# Altium footprint library ATK-SIM800C.PcbLib: 25 footprints (part 1 of 2)
Each footprint in its own frame and in the unit in brackets; x right, y up, seen from the top. Pads: shape width x height; smd on the part's side, far side on the other; paste and mask are expansions set on the pad; w line width, h text height; cw(c..) or ccw(c..) is an arc to the next point about the centre after c.
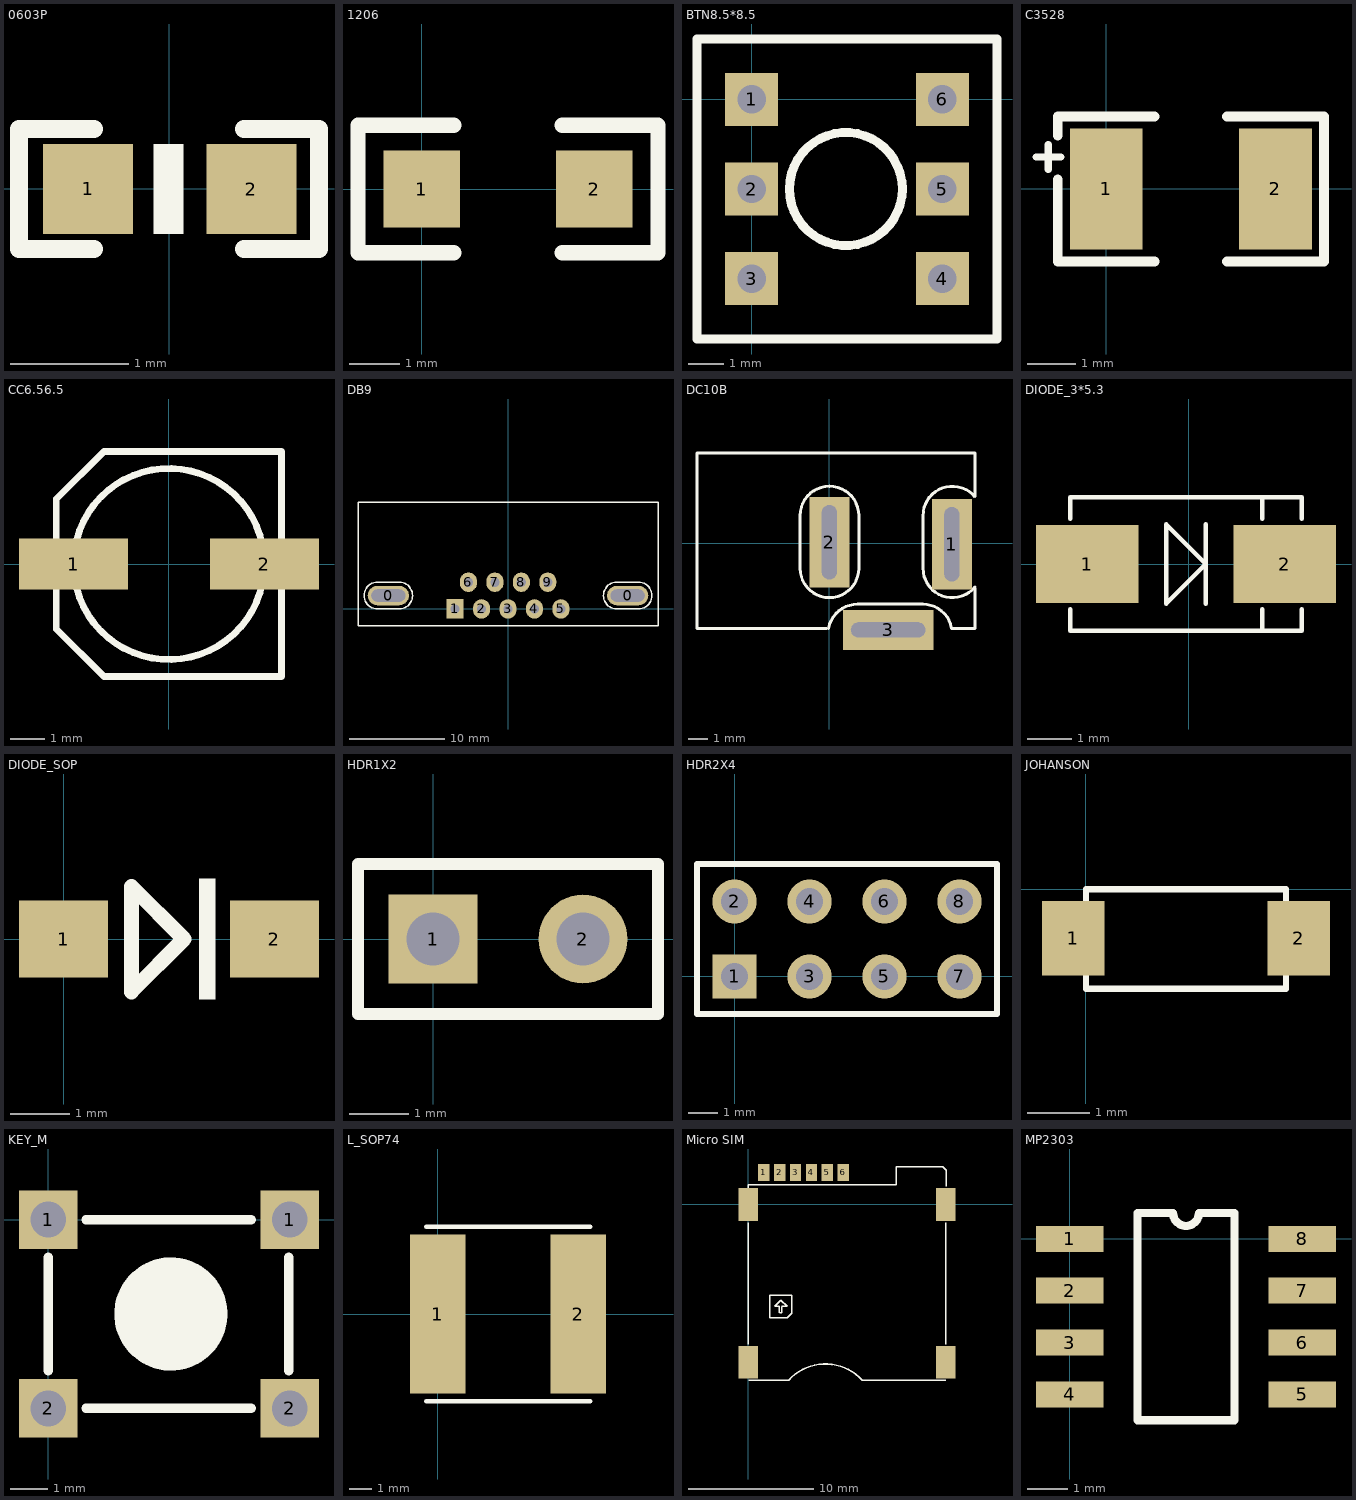
[diagram p0: the footprints below, top view; thin cyan lines are the x and y axes]

## 0603P [mil]
pads (2):
  rect 30x30 smd: 1(-27,0) 2(27.5,-0.06)
Top Overlay:
  region: 4.9,-15.03 4.9,14.97 -5.1,14.97 -5.1,-15.03
  lines w6: -25,-20.06 -50,-20.06 -50,19.94 -25,19.94 ; 25,-20.06 50,-20.06 50,19.94 25,19.94

## 1206 [mil]
pads (2):
  rect 60x60 smd: 1(0,0) 2(135,0)
Top Overlay:
  lines w12: 25,-50 -50,-50 -50,50 25,50 ; 110,-50 185,-50 185,50 110,50

## BTN8.5*8.5 [mm] "8.5MM*8.5MM"
height 20
pads (6):
  rect 1.5x1.5 hole 0.8: 1(0,0) 2(0,-2.54) 3(0,-5.08) 4(5.4,-5.08) 5(5.4,-2.54) 6(5.4,0)
Top Overlay:
  circle w0.254: c2.667,-2.54 r1.6
  lines w0.254: -1.55,-6.79 6.95,-6.79 6.95,1.71 -1.55,1.71 -1.55,-6.79

## C3528 [mm] "1210 3.5MM*2.8MM"
height 2
pads (2):
  rect 1.5x2.5 smd: 1(0,0) 2(3.5,0)
Top Overlay:
  lines w0.152: -1.448,0.662 -0.94,0.662 ; -1.194,0.408 -1.194,0.916
  lines w0.203: -1,0.2 -1,-1.5 1.005,-1.5 ; -1,1.1 -1,1.5 1,1.5 ; 2.5,-1.5 4.5,-1.5 4.5,1.5 2.5,1.5

## CC6.56.5 [mm] "SMD;W:6.5mm;L:6.5mm;"
height 5.5
pads (2):
  rect 3.2x1.5 smd: 1(-2.794,0) 2(2.8,0)
Top Overlay:
  circle w0.2: c0,0 r2.8
  lines w0.2: -3.302,-1.905 -3.302,1.905 -1.905,3.302 3.302,3.302 3.302,-3.302 -1.905,-3.302 -3.302,-1.905

## DB9 [mil]
pads (11):
  oval 170x80 hole 50 slot 140 at 0 deg: 0(-493,55) 0(493,55)
  rect 70x80 hole 38: 1(-218,0)
  oval 70x80 hole 38: 2(-109,0) 3(0,0) 4(109,0) 5(218,0) 6(-163,110) 7(-54,110) 8(55,110) 9(164,110)
Top Overlay:
  lines w6: -618,-70 618,-70 618,440 -618,440 -618,-70 ; -538,0 cw(c-538,55) -538,110 -448,110 cw(c-448,55) -448,0 -538,0 ; 448,0 cw(c448,55) 448,110 538,110 cw(c538,55) 538,0 448,0

## DC10B [mil]
pads (3):
  rect 80x180 hole 30 slot 148.11 at 90 deg: 1(244,-2) 2(0,2)
  rect 180x80 hole 30 slot 148.11 at 0 deg: 3(117,-173)
Top Overlay:
  lines w6: -6,-170.06 -264,-170.06 -264,179.94 290,179.94 289.83,92.55 ccw(c245,54.94) 186.48,54.94 186.48,-50.06 ccw(c245,-50.06) 289.83,-87.68 ; -1.63,-169.9 cw(c56,-180.06) 56,-121.54 186,-121.54 cw(c186,-180.06) 243.63,-169.9 ; 245,-170.06 290,-170.06 290,-90.06 ; 58.52,54.94 ccw(c0,54.94) -58.52,54.94 -58.52,-50.06 ccw(c0,-50.06) 58.52,-50.06 58.52,54.94 ; 58.52,54.94 58.52,54.94

## DIODE_3*5.3 [mm] "ME:SS14/SS24;L:5.3mm;W:3mm;"
height 2.5
pads (2):
  rect 2.3x1.75 smd: 1(-2.286,0) 2(2.159,0)
Top Overlay:
  lines w0.1: -2.667,-1.016 -2.667,-1.5 2.54,-1.5 2.54,-1.016 ; -2.667,1.016 -2.667,1.5 2.54,1.5 2.54,1.016 ; 0.381,-0.889 0.381,0.889 ; 1.651,-1.5 1.651,-1.016 ; 1.651,1.016 1.651,1.5 ; -0.508,-0.889 -0.508,0.889 0.381,0 -0.508,-0.889

## DIODE_SOP [mm] "4148"
height 2
pads (2):
  rect 1.5x1.3 smd: 1(0,0) 2(3.556,0)
Top Overlay:
  rectangle: 2.285,-1.015 2.558,1.017
  lines w0.254: 1.143,-0.889 2.032,0 1.143,0.889 1.143,-0.889

## HDR1X2 [mm] "Connector; Header; 2 Position"
pads (2):
  rect 1.5x1.5 hole 0.9: 1(0,0)
  round 1.5 hole 0.9: 2(2.54,0)
Top Overlay:
  lines w0.2: -1.27,-1.27 -1.27,1.27 3.81,1.27 3.81,-1.27 -1.27,-1.27

## HDR2X4 [mm] "Connector; Header; 4x2 Position"
pads (8):
  rect 1.5x1.5 hole 0.9: 1(0,0)
  round 1.5 hole 0.9: 2(0,2.54) 3(2.54,0) 4(2.54,2.54) 5(5.08,0) 6(5.08,2.54) 7(7.62,0) 8(7.62,2.54)
Top Overlay:
  lines w0.2: -1.27,-1.27 -1.27,3.81 8.89,3.81 8.89,-1.27 -1.27,-1.27

## JOHANSON [mm] "陶瓷天线 3.2mm *1.6m"
pads (2):
  rect 1x1.2 smd: 1(-0.203,-0.787) 2(3.429,-0.787)
Top Overlay:
  lines w0.1: 0,-1.6 0,0 3.2,0 ; 0.025,-1.6 3.225,-1.6 3.226,0

## KEY_M [mil] "KEY_MID"
pads (4):
  rect 62x62 hole 38: 1(0,0) 1(255.91,0) 2(0,-200) 2(255.91,-200)
Top Overlay:
  circle w60: c130,-100 r30
  lines w10: -0.03,-160 -0.03,-40 ; 39.97,-200 215,-200 ; 39.97,0 215,0 ; 255,-160 255,-40

## L_SOP74 [mm] "7.4*7.4"
height 4.2
pads (2):
  rect 2.5x7.2 smd: 1(0,0) 2(6.35,0)
Top Overlay:
  lines w0.203: -0.508,-3.937 6.892,-3.937 ; -0.508,3.937 6.892,3.937

## Micro SIM [mm] "6P 自弹式"
pads (10):
  rect 0.9x1.34 smd: 1(1.24,2.565) 2(2.51,2.565) 3(3.78,2.565) 4(5.05,2.565) 5(6.32,2.565) 6(7.59,2.565)
  rect 1.56x2.61 smd: ""(0,-12.63) ""(0,0) ""(15.78,-12.63) ""(15.78,0)
Top Overlay:
  lines w0.1: 0,-11.176 0,-1.448 ; 0,1.346 0,1.575 1.723,1.575 11.832,1.575 11.832,2.769 11.832,2.993 11.857,3.018 15.54,3.018 15.82,2.739 15.82,2.515 15.82,1.448 ; 0.046,-14.064 3.225,-14.064 ; 2.095,-8.141 2.591,-7.645 3.099,-8.153 2.692,-8.153 ; 2.108,-8.153 2.489,-8.153 2.489,-8.661 ; 2.515,-8.661 2.692,-8.661 2.692,-8.179 ; 3.454,-8.585 3.454,-7.239 1.727,-7.239 1.727,-9.068 3.099,-9.068 3.454,-8.712 3.454,-8.357 ; 9.113,-14.046 15.799,-14.046 ; 15.799,-11.176 15.799,-1.473
  lines w0.14: 3.225,-14.041 cw(c6.167,-16.751) 9.113,-14.046

## MP2303 [mil] "SOP8"
pads (8):
  rect 65x25 smd: 1(0,0) 2(0,-50) 3(0,-100) 4(0,-150) 5(224.41,-150) 6(224.41,-100) 7(224.41,-50) 8(224.41,0)
Top Overlay:
  lines w7.87: 65.37,-175 65.37,25 99.7,25 ccw(c112.2,25) 124.7,25 159.04,25 159.04,-175 65.37,-175